# EAGLE library part PCA9542A (library ICs)
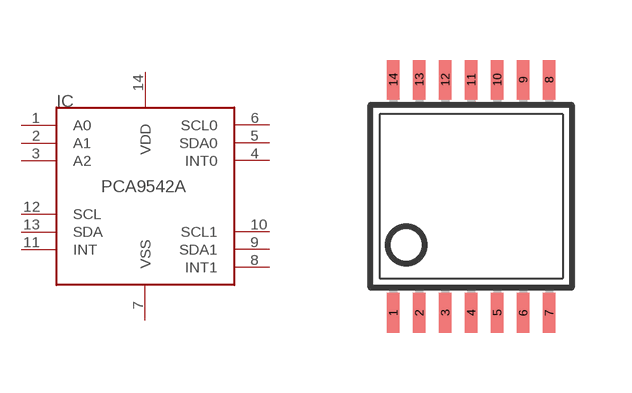
[diagram p1: symbol with the pads of TSSOP14; footprint TSSOP14]

Designator prefix IC

## PCA9542A  [TSSOP14]
1  A0  in
2  A1  in
3  A2  in
4  INT0
5  SDA0
6  SCL0
7  VSS  pwr
8  INT1
9  SDA1
10  SCL1
11  INT
12  SCL
13  SDA
14  VDD  pwr

## Footprint TSSOP14 (pad centres in mm)
Thin Shrink Small Outline Plastic 14 MAX3223-MAX3243.pdf
smd 0.305 x 0.991: 1 -1.95,-2.918; 2 -1.3,-2.918; 3 -0.65,-2.918; 4 0,-2.918; 5 0.65,-2.918; 6 1.3,-2.918; 7 1.95,-2.918; 8 1.95,2.918; 9 1.3,2.918; 10 0.65,2.918; 11 0,2.918; 12 -0.65,2.918; 13 -1.3,2.918; 14 -1.95,2.918